# Altium schematic symbol library CircuitProtection.SchLib: 3 symbols
Pins are listed as number, name and electrical type; pins without a type are passive.

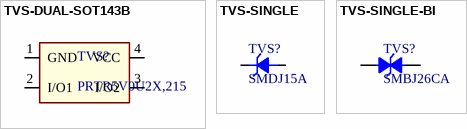
[diagram p0: symbols TVS-DUAL-SOT143B to TVS-SINGLE-BI]

## TVS-DUAL-SOT143B
designator TVS?, comment PRTR5V0U2X,215
Clamp  Ipp Tvs Diode Surface Mount SOT-143B; Part number: *; Manufacturer: *; Decription: *; Unit price: *; Value: PRTR5V0U2X,215
footprint SOT143-4 (SOT143-4 Package, TO-253-4, TO-253AA Case)
pins: 1 GND, 2 I/O1, 3 I/O2, 4 VCC

## TVS-SINGLE
designator TVS?, comment SMDJ15A
TVS DIODE - Transient Voltage Suppression Diode; Part number: *; Manufacturer: *; Decription: *; Unit price: *; Value: SMDJ15A
footprint SMB (SMB, DO-214AA -  Package)
footprint SMC (SMB, DO-214AB -  Package)
footprint SMA (SMA, DO-214AC -  Package)
footprint SOD123F
footprint SOD123
footprint SOD-923 (SOD923 SOD-923)
footprint SOD323 (SOD323,  SC-76 (3.75mm x 0.65mm))
pins: 1, 2

## TVS-SINGLE-BI
designator TVS?, comment SMBJ26CA
TVS DIODE 26V 42.1V SMB; Part number: *; Manufacturer: *; Decription: *; Unit price: *; Value: SMBJ26CA
footprint SMB (SMB, DO-214AA -  Package)
pins: 1, 2